# Altium schematic symbol library INDUCTOR IRON.Schlib: 1 symbol
Pins are listed as number, name and electrical type; pins without a type are passive.

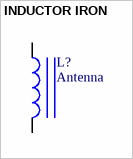
[diagram p0: symbol INDUCTOR IRON]

## INDUCTOR IRON
designator L?, comment Antenna
pins: 1, 2